# Altium schematic symbol library Reg LDO.SCHLIB: 57 symbols (part 1 of 2)
Pins are listed as number, name and electrical type; pins without a type are passive.

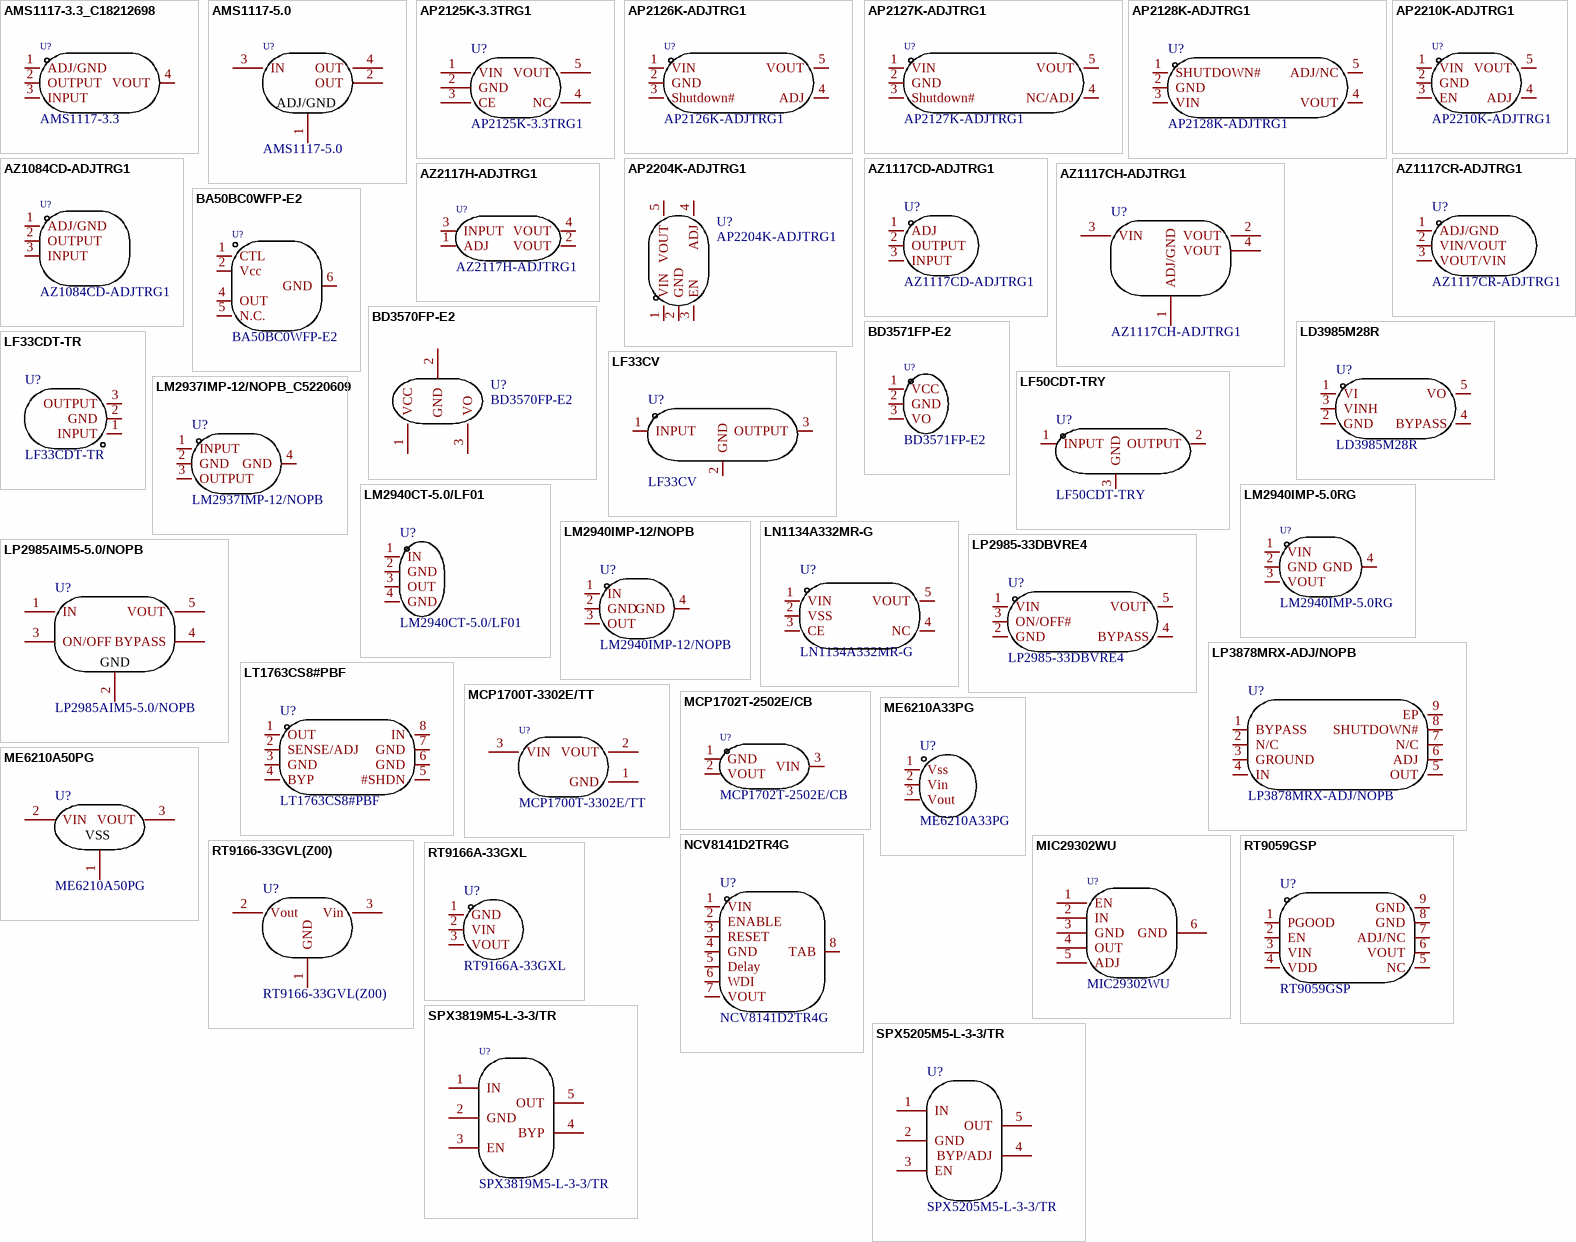
[diagram p0: symbols AMS1117-3.3_C18212698 to SPX5205M5-L-3-3/TR]

## AMS1117-3.3_C18212698
designator U?, comment AMS1117-3.3
Manufacturer: TECH PUBLIC(台舟); Symbol: AMS1117-3.3_C18212698; Add into BOM: yes; Device: AMS1117-3.3_C18212698; LCSC Part Name: AMS1117-3.3; Supplier Part: C18212698; Manufacturer Part: AMS1117-3.3; Supplier Footprint: SOT-223; Datasheet: https://atta.szlcsc.com/upload/public/pdf/source/20231024/2F46361C191D0B74404CBB3E85314756.pdf; Supplier: LCSC; Convert to PCB: yes; Name: AMS1117-3.3
footprint SOT-223-3_L6.5-W3.4-P2.30-LS7.0-BR
3D model SOT-223-4P_L6.5-W3.5-H1.6-LS7.0-P2.30
pins: 1 ADJ/GND, 2 OUTPUT, 3 INPUT, 4 VOUT

## AMS1117-5.0
designator U?
Manufacturer: 国芯佳品; Symbol: AMS1117-5.0_C2992571; Add into BOM: yes; Name: AMS1117-5.0; Device: AMS1117-5.0; LCSC Part Name: AMS1117-5.0; Supplier Part: C2992571; Manufacturer Part: AMS1117-5.0; Supplier Footprint: SOT-223-3; JLCPCB Part Class: Extended Part; Datasheet: https://atta.szlcsc.com/upload/public/pdf/source/20220729/0D21C21EC310E4778671BF6BAE438640.pdf; Supplier: LCSC; Convert to PCB: yes
footprint SOT-223-3_L6.4-W3.5-P2.30-LS7.0-BR
3D model SOT-223-3_L6.4-W3.5-P2.30-LS7.0-BR
pins: 1 ADJ/GND, 2 OUT, 3 IN, 4 OUT

## AP2125K-3.3TRG1
designator U?
Output Type: Output Polarity:Positive Number of Outputs:1 Maximum Input Voltage:6V Output Voltage:3.3V~3.3V Output Voltage:3.3V~3.3V Dropout Voltage:300mV@(300mA) Output Current:360mA Power Supply Rejection Ratio (PSRR):65dB@(100Hz,1kHz); Manufacturer: DIODES(美台); Add into BOM: yes; Number of Outputs: 1; Maximum Input Voltage: 6V; Output Current: 360mA; Name: AP2125K-3.3TRG1; Symbol: AP2125K-3.3TRG1; Device: AP2125K-3.3TRG1; LCSC Part Name: AP2125K-3.3TRG1; Supplier Part: C110463; Manufacturer Part: AP2125K-3.3TRG1; Supplier Footprint: SOT-23-5; JLCPCB Part Class: Extended Part; Datasheet: https://atta.szlcsc.com/upload/public/pdf/source/20170427/1493286382508.pdf; Supplier: LCSC; Convert to PCB: yes; Output Polarity: Positive; Output Voltage: 3.3V~3.3V; Dropout Voltage: 300mV@(300mA); Power Supply Rejection Ratio (PSRR): 65dB@(100Hz,1kHz)
footprint SOT-23-5_L3.0-W1.7-P0.95-LS2.8-BR
3D model SOT-23-5_L2.9-W1.6-H1.1-LS2.8-P0.95
pins: 1 VIN, 2 GND, 3 CE, 4 NC, 5 VOUT

## AP2126K-ADJTRG1
designator U?
Output Type: Output Polarity:Positive Number of Outputs:1 Maximum Input Voltage:6V Output Voltage:1.25V~5.5V Output Voltage:1.25V~5.5V Dropout Voltage:- Quiescent Current (Ground Current):90uA Output Current:300mA Power Supply Rejection Ratio (PSRR):68dB@; Manufacturer: DIODES(美台); Add into BOM: yes; Number of Outputs: 1; Maximum Input Voltage: 6V; Quiescent Current (Ground Current): 90uA; Output Current: 300mA; Power Supply Rejection Ratio (PSRR): 68dB@(100Hz,1kHz),54dB@(10kHz); Name: AP2126K-ADJTRG1; Symbol: AP2126K-ADJTRG1; Device: AP2126K-ADJTRG1; LCSC Part Name: ADJ 输入6V 输出1.25V~5.5V 300mA; Supplier Part: C460324; Manufacturer Part: AP2126K-ADJTRG1; Supplier Footprint: SOT-23-5; JLCPCB Part Class: Extended Part; Datasheet: https://atta.szlcsc.com/upload/public/pdf/source/20191127/C460324_56767199D18BE277FD1303F16266266F.pdf; Supplier: LCSC; Convert to PCB: yes; Output Polarity: Positive; Output Voltage: 1.25V~5.5V; Dropout Voltage: -; Operating Temperature: -40℃~+85℃
footprint SOT-23-5_L3.0-W1.7-P0.95-LS2.8-BL
3D model SOT-23-5_L2.9-W1.6-H1.1-LS2.8-P0.95
pins: 1 VIN, 2 GND, 3 Shutdown#, 4 ADJ, 5 VOUT

## AP2127K-ADJTRG1
designator U?
Output Type: Output Polarity:Positive Number of Outputs:1 Maximum Input Voltage:6V Output Voltage:0.8V~5.5V Output Voltage:0.8V~5.5V Dropout Voltage:300mV@(300mA) Quiescent Current (Ground Current):90uA Output Current:400mA Power Supply Rejection Ratio (P; Manufacturer: DIODES(美台); Add into BOM: yes; Number of Outputs: 1; Maximum Input Voltage: 6V; Quiescent Current (Ground Current): 90uA; Output Current: 400mA; Power Supply Rejection Ratio (PSRR): 68dB@(100Hz),45dB@(10kHz); Name: AP2127K-ADJTRG1; Symbol: AP2127K-ADJTRG1; Device: AP2127K-ADJTRG1; LCSC Part Name: ADJ 输入6V 输出0.8V~5.5V 400mA; Supplier Part: C96343; Manufacturer Part: AP2127K-ADJTRG1; Supplier Footprint: SOT-23-5; JLCPCB Part Class: Extended Part; Datasheet: https://atta.szlcsc.com/upload/public/pdf/source/20171221/C151376_15138312836001195553.pdf; Supplier: LCSC; Convert to PCB: yes; Output Polarity: Positive; Output Voltage: 0.8V~5.5V; Dropout Voltage: 300mV@(300mA); Operating Temperature: -40℃~+85℃
footprint SOT-23-5_L3.0-W1.7-P0.95-LS2.8-BR
3D model SOT-23-5_L2.9-W1.6-H1.1-LS2.8-P0.95
pins: 1 VIN, 2 GND, 3 Shutdown#, 4 NC/ADJ, 5 VOUT

## AP2128K-ADJTRG1
designator U?
Output Type: Output Polarity:Positive Number of Outputs:1 Maximum Input Voltage:6V Output Voltage:0.8V~5.5V Output Voltage:0.8V~5.5V Dropout Voltage:1.5V@(300mA) Output Current:300mA Power Supply Rejection Ratio (PSRR):68dB@(100Hz,1kHz),54dB@(10kHz); Manufacturer: DIODES(美台); Add into BOM: yes; Number of Outputs: 1; Maximum Input Voltage: 6V; Name: AP2128K-ADJTRG1; Symbol: AP2128K-ADJTRG1; Device: AP2128K-ADJTRG1; LCSC Part Name: 正 Vin=6V Vout=0.8V~5.5V 300mA 68dB; Supplier Part: C460332; Manufacturer Part: AP2128K-ADJTRG1; Supplier Footprint: SOT-23-5; JLCPCB Part Class: Extended Part; Datasheet: https://atta.szlcsc.com/upload/public/pdf/source/20191127/C460332_F3032CAF181CE5C37BCF2FF9F6B9B591.pdf; Supplier: LCSC; Convert to PCB: yes; Output Polarity: Positive; Output Voltage: 0.8V~5.5V; Dropout Voltage: 1.5V@(300mA); Output Current: 300mA; Power Supply Rejection Ratio (PSRR): 68dB@(100Hz,1kHz),54dB@(10kHz)
footprint SOT-23-5_L2.9-W1.6-P0.95-LS2.8-BL
3D model SOT-23-5_L2.9-W1.6-P0.95-LS2.8-BL
pins: 1 SHUTDOWN#, 2 GND, 3 VIN, 4 VOUT, 5 ADJ/NC

## AP2204K-ADJTRG1
designator U?
Output Type: Output Polarity:Positive Number of Outputs:1 Maximum Input Voltage:24V Output Voltage:1.24V~22V Output Voltage:1.24V~22V Dropout Voltage:500mV@(150mA) Output Current:150mA Power Supply Rejection Ratio (PSRR):60dB@(100Hz,1kHz); Manufacturer: DIODES(美台); Add into BOM: yes; Number of Outputs: 1; Maximum Input Voltage: 24V; Name: AP2204K-ADJTRG1; Symbol: AP2204K-ADJTRG1; Device: AP2204K-ADJTRG1; LCSC Part Name: ADJ 输入24V 输出1.24V~22V 150mA; Supplier Part: C264072; Manufacturer Part: AP2204K-ADJTRG1; Supplier Footprint: SOT-23-5; JLCPCB Part Class: Extended Part; Datasheet: https://atta.szlcsc.com/upload/public/pdf/source/20180822/C264072_EFC7A571A9E1AB058274A781B1FE9390.pdf; Supplier: LCSC; Convert to PCB: yes; Output Polarity: Positive; Output Voltage: 1.24V~22V; Dropout Voltage: 500mV@(150mA); Output Current: 150mA; Power Supply Rejection Ratio (PSRR): 60dB@(100Hz,1kHz)
footprint SOT-23-5_L3.0-W1.7-P0.95-LS2.8-BR
3D model SOT-23-5_L2.9-W1.6-H1.1-LS2.8-P0.95
pins: 1 VIN, 2 GND, 3 EN, 4 ADJ, 5 VOUT

## AP2210K-ADJTRG1
designator U?
Output Type:可调 Output Polarity:正 Number of Outputs:1 Maximum Input Voltage:13.2V Output Voltage:1.25V~12.7V Output Voltage:1.25V~12.7V Dropout Voltage:0.5V@(300mA) Quiescent Current (Ground Current):180uA Output Current:300mA Power Supply Rejection Ratio; Manufacturer: DIODES(美台); Add into BOM: yes; Output Type: 可调; Output Polarity: 正; Number of Outputs: 1; Maximum Input Voltage: 13.2V; Quiescent Current (Ground Current): 180uA; Power Supply Rejection Ratio (PSRR): 75dB@(100Hz); Name: AP2210K-ADJTRG1; Symbol: AP2210K-ADJTRG1; Device: AP2210K-ADJTRG1; LCSC Part Name: AP2210K-ADJTRG1; Supplier Part: C507874; Manufacturer Part: AP2210K-ADJTRG1; Supplier Footprint: SOT-23-5; JLCPCB Part Class: Extended Part; Datasheet: https://atta.szlcsc.com/upload/public/pdf/source/20191127/C460341_CF25CCA109B05FF71BEEAE7A7BF43895.pdf; Supplier: LCSC; Convert to PCB: yes; Output Voltage: 1.25V~12.7V; Dropout Voltage: 0.5V@(300mA); Output Current: 300mA; Operating Temperature: -40℃~+125℃
footprint SOT-23-5_L2.9-W1.6-P0.95-LS2.8-BR
3D model SOT-23-5_L2.9-W1.6-P0.95-LS2.8-BR
pins: 1 VIN, 2 GND, 3 EN, 4 ADJ, 5 VOUT

## AZ1084CD-ADJTRG1
designator U?
Output Type: Output Polarity:Positive Number of Outputs:1 Maximum Input Voltage:12V Output Voltage:1.25V~10.5V Output Voltage:1.25V~10.5V Dropout Voltage:1.5V@(4.5A) Quiescent Current (Ground Current):10mA Output Current:5A Power Supply Rejection Ratio (P; Manufacturer: DIODES(美台); Add into BOM: yes; Number of Outputs: 1; Maximum Input Voltage: 12V; Quiescent Current (Ground Current): 10mA; Output Current: 5A; Power Supply Rejection Ratio (PSRR): 72dB@(120Hz); Name: AZ1084CD-ADJTRG1; Symbol: AZ1084CD-ADJTRG1; Device: AZ1084CD-ADJTRG1; LCSC Part Name: ADJ 输入12V 输出1.25V~10.5V 5A; Supplier Part: C150458; Manufacturer Part: AZ1084CD-ADJTRG1; Supplier Footprint: TO-252; JLCPCB Part Class: Extended Part; Datasheet: https://atta.szlcsc.com/upload/public/pdf/source/20171221/C151391_15138312907591195568.pdf; Supplier: LCSC; Convert to PCB: yes; Output Polarity: Positive; Output Voltage: 1.25V~10.5V; Dropout Voltage: 1.5V@(4.5A); Operating Temperature: 0℃~+125℃
footprint TO-252-2_L6.6-W6.1-P4.57-LS9.9-TL-CW
3D model TO-252-2L-3P_L6.6-W6.1-H2.3-LS10.1-P4.6
pins: 1 ADJ/GND, 2 OUTPUT, 3 INPUT

## AZ1117CD-ADJTRG1
designator U?
Output Type:-; Manufacturer: DIODES(美台); Add into BOM: yes; Name: AZ1117CD-ADJTRG1; Symbol: AZ1117CD-ADJTRG1; Device: AZ1117CD-ADJTRG1; LCSC Part Name: AZ1117CD-ADJTRG1; Supplier Part: C177005; Manufacturer Part: AZ1117CD-ADJTRG1; Supplier Footprint: TO-252-2; JLCPCB Part Class: Extended Part; Datasheet: https://atta.szlcsc.com/upload/public/pdf/source/20200113/C481691_4CA85A195C85BD5111869557270CCBB7.pdf; Supplier: LCSC; Convert to PCB: yes; Output Type: -
footprint TO-252-2_L6.6-W6.1-P4.57-LS9.9-BR-CW
3D model TO-252-2L-3P_L6.6-W6.1-H2.3-LS10.1-P4.6
pins: 1 ADJ, 2 OUTPUT, 3 INPUT

## AZ1117CH-ADJTRG1
designator U?
Output Type: Output Polarity:Positive Number of Outputs:1 Maximum Input Voltage:15V Output Voltage:1.25V~13.7V Output Voltage:1.25V~13.7V Dropout Voltage:1.3V@(800mA) Output Current:800mA Power Supply Rejection Ratio (PSRR):70dB@(120Hz); Manufacturer: DIODES(美台); Add into BOM: yes; Number of Outputs: 1; Maximum Input Voltage: 15V; Name: AZ1117CH-ADJTRG1; Symbol: AZ1117CH-ADJTRG1; Device: AZ1117CH-ADJTRG1; LCSC Part Name: AZ1117CH-ADJTRG1; Supplier Part: C95398; Manufacturer Part: AZ1117CH-ADJTRG1; Supplier Footprint: SOT-223; JLCPCB Part Class: Extended Part; Datasheet: https://atta.szlcsc.com/upload/public/pdf/source/20170427/1493286424573.pdf; Supplier: LCSC; Convert to PCB: yes; Output Polarity: Positive; Output Voltage: 1.25V~13.7V; Dropout Voltage: 1.3V@(800mA); Output Current: 800mA; Power Supply Rejection Ratio (PSRR): 70dB@(120Hz)
footprint SOT-223-3_L6.5-W3.4-P2.30-LS7.0-BR
3D model SOT-223-4P_L6.5-W3.5-H1.6-LS7.0-P2.30
pins: 1 ADJ/GND, 2 VOUT, 3 VIN, 4 VOUT

## AZ1117CR-ADJTRG1
designator U?
Output Type: Output Polarity:Positive Number of Outputs:1 Maximum Input Voltage:15V Output Voltage:1.25V~15V Output Voltage:1.25V~15V Dropout Voltage:- Output Current:1A Power Supply Rejection Ratio (PSRR):70dB@(120Hz); Manufacturer: DIODES(美台); Add into BOM: yes; Number of Outputs: 1; Maximum Input Voltage: 15V; Output Current: 1A; Name: AZ1117CR-ADJTRG1; Symbol: AZ1117CR-ADJTRG1; Device: AZ1117CR-ADJTRG1; LCSC Part Name: AZ1117CR-ADJTRG1; Supplier Part: C481691; Manufacturer Part: AZ1117CR-ADJTRG1; Supplier Footprint: SOT-89-3L; JLCPCB Part Class: Extended Part; Datasheet: https://atta.szlcsc.com/upload/public/pdf/source/20200113/C481691_4CA85A195C85BD5111869557270CCBB7.pdf; Supplier: LCSC; Convert to PCB: yes; Output Polarity: Positive; Output Voltage: 1.25V~15V; Dropout Voltage: -; Power Supply Rejection Ratio (PSRR): 70dB@(120Hz)
footprint SOT-89-3L_L4.5-W2.5-P1.50-LS4.1-BR
3D model SOT-89-3L_L4.5-W2.5-P1.50-LS4.1-BR
pins: 1 ADJ/GND, 2 VIN/VOUT, 3 VOUT/VIN

## AZ2117H-ADJTRG1
designator U?
Output Type:可调 Output Polarity:正 Number of Outputs:1 Maximum Input Voltage:15V Dropout Voltage:1.5V@(1A) Output Current:1.5A Power Supply Rejection Ratio (PSRR):60dB@(1kHz) Operating Temperature:-40℃~+125℃@(Tj) Operating Temperature:-40℃~+125℃@(Tj); Manufacturer: DIODES(美台); Add into BOM: yes; Output Type: 可调; Output Polarity: 正; Number of Outputs: 1; Maximum Input Voltage: 15V; Output Current: 1.5A; Name: AZ2117H-ADJTRG1; Symbol: AZ2117H-ADJTRG1; Device: AZ2117H-ADJTRG1; LCSC Part Name: AZ2117H-ADJTRG1; Supplier Part: C2960364; Manufacturer Part: AZ2117H-ADJTRG1; Supplier Footprint: TO-261-4; Datasheet: https://atta.szlcsc.com/upload/public/pdf/source/20221028/8BAC78F6EA50E5ECF58642D9646821A6.pdf; Supplier: LCSC; Convert to PCB: yes; Dropout Voltage: 1.5V@(1A); Power Supply Rejection Ratio (PSRR): 60dB@(1kHz); Operating Temperature: -40℃~+125℃@(Tj); link: https://atta.szlcsc.com/upload/public/pdf/source/20221028/8BAC78F6EA50E5ECF58642D9646821A6.pdf
footprint SOT-223-3_L6.7-W3.7-P2.30-LS7.0-BR
3D model SOT-223-3_L6.7-W3.7-P2.30-LS7.0-BR
pins: 1 ADJ, 2 VOUT, 3 INPUT, 4 VOUT

## BA50BC0WFP-E2
designator U?
Output Type:固定 Output Polarity:正 Number of Outputs:1 Maximum Input Voltage:16V Output Voltage:5V Output Voltage:5V Quiescent Current (Ground Current):0.5mA Output Current:1A Power Supply Rejection Ratio (PSRR):55dB@(120Hz) Operating Temperature:-40℃~+105℃; Manufacturer: ROHM(罗姆); Add into BOM: yes; Output Type: 固定; Output Polarity: 正; Number of Outputs: 1; Maximum Input Voltage: 16V; Output Voltage: 5V; Quiescent Current (Ground Current): 0.5mA; Output Current: 1A; Name: BA50BC0WFP-E2; Symbol: BA50BC0WFP-E2; Device: BA50BC0WFP-E2; LCSC Part Name: BA50BC0WFP-E2; Supplier Part: C5178527; Manufacturer Part: BA50BC0WFP-E2; Supplier Footprint: TO-252-5; Datasheet: https://atta.szlcsc.com/upload/public/pdf/source/20220923/07A3E336AEFB193F2C1D419187BFB116.pdf; Supplier: LCSC; Convert to PCB: yes; Power Supply Rejection Ratio (PSRR): 55dB@(120Hz); Operating Temperature: -40℃~+105℃; link: https://atta.szlcsc.com/upload/public/pdf/source/20220923/07A3E336AEFB193F2C1D419187BFB116.pdf
footprint TO-252-5_L6.5-W5.5-P1.30-LS10.0-BR
3D model TO-252-5-4P_L6.5-W6.2-H2.3-LS10.0-P1.14
pins: 1 CTL, 2 Vcc, 4 OUT, 5 N.C., 6 GND

## BD3570FP-E2
designator U?
Output Type: Output Polarity:Positive Number of Outputs:1 Maximum Input Voltage:36V Output Voltage:3.3V~3.3V Output Voltage:3.3V~3.3V Dropout Voltage:- Output Current:500mA Power Supply Rejection Ratio (PSRR):55dB@(120Hz); Manufacturer: ROHM(罗姆); Add into BOM: yes; Number of Outputs: 1; Maximum Input Voltage: 36V; Output Current: 500mA; Name: BD3570FP-E2; Symbol: BD3570FP-E2; Device: BD3570FP-E2; LCSC Part Name: BD3570FP-E2; Supplier Part: C79634; Manufacturer Part: BD3570FP-E2; Supplier Footprint: TO-252-2(DPAK); JLCPCB Part Class: Extended Part; Datasheet: https://atta.szlcsc.com/upload/public/pdf/source/20160729/1469779572164.pdf; Supplier: LCSC; Convert to PCB: yes; Output Polarity: Positive; Output Voltage: 3.3V~3.3V; Dropout Voltage: -; Power Supply Rejection Ratio (PSRR): 55dB@(120Hz)
footprint TO-252-2_L6.6-W6.1-P4.57-LS9.9-BR-CW
3D model TO-252-2L-3P_L6.6-W6.1-H2.3-LS10.1-P4.6
pins: 1 VCC, 2 GND, 3 VO

## BD3571FP-E2
designator U?
Output Type: Output Polarity:Positive Number of Outputs:1 Maximum Input Voltage:36V Output Voltage:5V Output Voltage:5V Dropout Voltage:480mV@(200mA) Quiescent Current (Ground Current):30uA Output Current:500mA Power Supply Rejection Ratio (PSRR):55dB@(12; Manufacturer: ROHM(罗姆); Add into BOM: yes; Number of Outputs: 1; Maximum Input Voltage: 36V; Output Voltage: 5V; Quiescent Current (Ground Current): 30uA; Output Current: 500mA; Power Supply Rejection Ratio (PSRR): 55dB@(120Hz); Name: BD3571FP-E2; Symbol: BD3571FP-E2; Device: BD3571FP-E2; LCSC Part Name: 输入36V 输出5V 500mA; Supplier Part: C442614; Manufacturer Part: BD3571FP-E2; Supplier Footprint: TO-252; JLCPCB Part Class: Extended Part; Datasheet: https://atta.szlcsc.com/upload/public/pdf/source/20160729/1469779572164.pdf; Supplier: LCSC; Convert to PCB: yes; Output Polarity: Positive; Dropout Voltage: 480mV@(200mA); Operating Temperature: -40℃~+125℃
footprint TO-252-3_L6.5-W5.8-P4.58-BR
3D model TO-252-3_L6.5-W6.1-H2.3-LS10.0-P4.58
pins: 1 VCC, 2 GND, 3 VO

## LD3985M28R
designator U?
Manufacturer: ST(意法半导体); Add into BOM: yes; Name: LD3985M28R; Symbol: LD3985M28R; Device: LD3985M28R; LCSC Part Name: LD3985M28R; Supplier Part: C5267951; Manufacturer Part: LD3985M28R; Supplier Footprint: SOT-23-5; Supplier: LCSC; Convert to PCB: yes
footprint SOT-23-5_L3.0-W1.6-P0.95-LS2.8-BR
3D model SOT-23-5_L3.0-W1.6-P0.95-LS2.8-BR
pins: 1 VI, 2 GND, 3 VINH, 4 BYPASS, 5 VO

## LF33CDT-TR
designator U?
Output Type: Output Polarity:Positive Number of Outputs:1 Maximum Input Voltage:16V Output Voltage:3.3V~3.3V Output Voltage:3.3V~3.3V Dropout Voltage:700mV@(500mA) Output Current:500mA Power Supply Rejection Ratio (PSRR):80dB@(120Hz),65dB@(10kHz); Manufacturer: ST(意法半导体); Add into BOM: yes; Number of Outputs: 1; Maximum Input Voltage: 16V; Name: LF33CDT-TR; Symbol: LF33CDT-TR; Device: LF33CDT-TR; LCSC Part Name: 输入16V 输出3.3V 500mA; Supplier Part: C222179; Manufacturer Part: LF33CDT-TR; Supplier Footprint: TO-252-2(DPAK); JLCPCB Part Class: Extended Part; Datasheet: https://atta.szlcsc.com/upload/public/pdf/source/20180517/C222179_968CB5F70D94A634C9FBB717B401E16B.pdf; Supplier: LCSC; Convert to PCB: yes; Output Polarity: Positive; Output Voltage: 3.3V~3.3V; Dropout Voltage: 700mV@(500mA); Output Current: 500mA; Power Supply Rejection Ratio (PSRR): 80dB@(120Hz),65dB@(10kHz)
footprint TO-252-2_L6.6-W6.1-P4.57-LS9.9-BR-CW
3D model TO-252-2L-3P_L6.6-W6.1-H2.3-LS10.1-P4.6
pins: 1 INPUT, 2 GND, 3 OUTPUT

## LF33CV
designator U?
Output Type:固定 Output Polarity:正 Number of Outputs:1 Maximum Input Voltage:16V Output Voltage:12V~12V Output Voltage:12V~12V Dropout Voltage:0.7V@(500mA) Quiescent Current (Ground Current):1mA Output Current:500mA Operating Temperature:-40℃~+125℃ Operatin; Manufacturer: ST(意法半导体); Add into BOM: yes; Output Type: 固定; Output Polarity: 正; Number of Outputs: 1; Maximum Input Voltage: 16V; Quiescent Current (Ground Current): 1mA; Name: LF33CV; Symbol: LF33CV; Device: LF33CV; LCSC Part Name: LF33CV; Supplier Part: C2832779; Manufacturer Part: LF33CV; Supplier Footprint: TO-220-3; Datasheet: https://atta.szlcsc.com/upload/public/pdf/source/20191009/C435902_65B3AAB3204119845CFC8A7586266A6B.pdf; Supplier: LCSC; Convert to PCB: yes; Output Voltage: 12V~12V; Dropout Voltage: 0.7V@(500mA); Output Current: 500mA; Operating Temperature: -40℃~+125℃
footprint TO-220-3_L10.2-W4.5-P2.54-L
3D model TO-220-3_L10.2-W4.5-P2.54-L
pins: 1 INPUT, 2 GND, 3 OUTPUT

## LF50CDT-TRY
designator U?
Output Type:固定 Output Polarity:正 Number of Outputs:1 Maximum Input Voltage:16V Output Voltage:5V Output Voltage:5V Dropout Voltage:1.3V@(500mA) Quiescent Current (Ground Current):2mA Output Current:500mA Operating Temperature:-40℃~+125℃ Operating Temperat; Manufacturer: ST(意法半导体); Add into BOM: yes; Output Type: 固定; Output Polarity: 正; Number of Outputs: 1; Maximum Input Voltage: 16V; Output Voltage: 5V; Quiescent Current (Ground Current): 2mA; Name: LF50CDT-TRY; Symbol: LF50CDT-TRY; Device: LF50CDT-TRY; LCSC Part Name: LF50CDT-TRY; Supplier Part: C2971144; Manufacturer Part: LF50CDT-TRY; Supplier Footprint: TO-252; Datasheet: https://atta.szlcsc.com/upload/public/pdf/source/20191009/C435902_65B3AAB3204119845CFC8A7586266A6B.pdf; Supplier: LCSC; Convert to PCB: yes; Dropout Voltage: 1.3V@(500mA); Output Current: 500mA; Operating Temperature: -40℃~+125℃
footprint TO-252-3_L6.6-W6.1-P4.56-LS9.9-TL
3D model TO-252-3_L6.6-W6.1-P4.56-LS9.9-TL
pins: 1 INPUT, 2 OUTPUT, 3 GND

## LM2937IMP-12/NOPB_C5220609
designator U?, comment LM2937IMP-12/NOPB
Output Type: Output Polarity:正 Number of Outputs:1 Maximum Input Voltage:26V Output Voltage:12V Output Voltage:12V Dropout Voltage:500mV Quiescent Current (Ground Current):2mA Output Current:0.5A Power Supply Rejection Ratio (PSRR):57dB@(100kHz) Noise:150; Manufacturer: TI(德州仪器); Symbol: LM2937IMP-12/NOPB_C5220609; Add into BOM: yes; Output Polarity: 正; Number of Outputs: 1; Maximum Input Voltage: 26V; Output Voltage: 12V; Dropout Voltage: 500mV; Quiescent Current (Ground Current): 2mA; Output Current: 0.5A; Noise: 150uVrms; Name: LM2937IMP-12/NOPB; Device: LM2937IMP-12/NOPB_C5220609; LCSC Part Name: 输入26V 输出5V~15V 0.5A; Supplier Part: C5220609; Manufacturer Part: LM2937IMP-12/NOPB; Supplier Footprint: SOT-223-4; JLCPCB Part Class: Extended Part; Datasheet: https://www.ti.com/cn/lit/gpn/lm2937; Supplier: LCSC; Convert to PCB: yes; Power Supply Rejection Ratio (PSRR): 57dB@(100kHz); Feature: -; Operating Temperature: -40℃~+85℃
footprint SOT-223-4_L6.5-W3.5-P2.30-LS7.0-BR
3D model SOT-223-4P_L6.5-W3.5-H1.6-LS7.0-P2.30
pins: 1 INPUT, 2 GND, 3 OUTPUT, 4 GND

## LM2940CT-5.0/LF01
designator U?
Manufacturer: TI(德州仪器); Add into BOM: yes; Name: LM2940CT-5.0/LF01; Symbol: LM2940CT-5.0/LF01; Device: LM2940CT-5.0/LF01; LCSC Part Name: LM2940CT-5.0/LF01; Supplier Part: C2866631; Manufacturer Part: LM2940CT-5.0/LF01; Supplier Footprint: TO-220; JLCPCB Part Class: Extended Part; Datasheet: https://atta.szlcsc.com/upload/public/pdf/source/20230221/4B169323BAF460E6951AD52F46BCB2F6.pdf; Supplier: LCSC; Convert to PCB: yes
footprint TO-220-3_L16.2-W10.2-P2.54-TL_TI_NDG
3D model TO-220-3_L16.2-W10.2-P2.54-TL_TI_NDG
pins: 1 IN, 2 GND, 3 OUT, 4 GND

## LM2940IMP-5.0RG
designator U?
Manufacturer: HGC(深圳汉芯); Add into BOM: yes; Name: LM2940IMP-5.0RG; Symbol: LM2940IMP-5.0RG; Device: LM2940IMP-5.0RG; LCSC Part Name: LM2940IMP-5.0RG; Supplier Part: C5145300; Manufacturer Part: LM2940IMP-5.0RG; Supplier Footprint: SOT-223; Datasheet: https://atta.szlcsc.com/upload/public/pdf/source/20230410/C7BD4CEE63E292837B75FC9C2A710A86.pdf; Supplier: LCSC; Convert to PCB: yes; link: https://atta.szlcsc.com/upload/public/pdf/source/20230410/C7BD4CEE63E292837B75FC9C2A710A86.pdf
footprint SOT-223-4_L6.5-W3.5-P2.30-LS7.0-BR
3D model SOT-223-4P_L6.5-W3.5-H1.6-LS7.0-P2.30
pins: 1 VIN, 2 GND, 3 VOUT, 4 GND

## LM2940IMP-12/NOPB
designator U?
Manufacturer: TI(德州仪器); Add into BOM: yes; Name: LM2940IMP-12/NOPB; Symbol: LM2940IMP-12/NOPB; Device: LM2940IMP-12/NOPB; LCSC Part Name: LM2940IMP-12/NOPB; Supplier Part: C86562; Manufacturer Part: LM2940IMP-12/NOPB; Supplier Footprint: SOT-223-4; JLCPCB Part Class: Extended Part; Datasheet: https://atta.szlcsc.com/upload/public/pdf/source/20181012/C86562_C13BD1C5565BF5BF0D91488D5322B6E8.pdf; Supplier: LCSC; Convert to PCB: yes
footprint SOT-223-4_L6.5-W3.5-P2.30-LS7.0-BR
3D model SOT-223-4P_L6.5-W3.5-H1.6-LS7.0-P2.30
pins: 1 IN, 2 GND, 3 OUT, 4 GND

## LN1134A332MR-G
designator U?
Output Type: Output Polarity:Positive Number of Outputs:1 Maximum Input Voltage:7V Output Voltage:3.3V~3.3V Output Voltage:3.3V~3.3V Dropout Voltage:450mV@(100mA) Output Current:300mA Power Supply Rejection Ratio (PSRR):70dB@(10kHz); Manufacturer: natlinear(南麟); Add into BOM: yes; Number of Outputs: 1; Maximum Input Voltage: 7V; Output Current: 300mA; Name: LN1134A332MR-G; Symbol: LN1134A332MR-G; Device: LN1134A332MR-G; LCSC Part Name: LN1134A332MR-G; Supplier Part: C141419; Manufacturer Part: LN1134A332MR-G; Supplier Footprint: SOT-23-5; JLCPCB Part Class: Extended Part; Datasheet: https://atta.szlcsc.com/upload/public/pdf/source/20171110/C141419_15102792351811104212.pdf; Supplier: LCSC; Convert to PCB: yes; Output Polarity: Positive; Output Voltage: 3.3V~3.3V; Dropout Voltage: 450mV@(100mA); Power Supply Rejection Ratio (PSRR): 70dB@(10kHz)
footprint SOT-23-5_L3.0-W1.7-P0.95-LS2.8-BR
3D model SOT-23-5_L2.9-W1.6-H1.1-LS2.8-P0.95
pins: 1 VIN, 2 VSS, 3 CE, 4 NC, 5 VOUT

## LP2985-33DBVRE4
designator U?
Output Type: Output Polarity:Positive Number of Outputs:1 Maximum Input Voltage:16V Output Voltage:3.3V~3.3V Output Voltage:3.3V~3.3V Dropout Voltage:0.58V@(150mA) Quiescent Current (Ground Current):95uA Output Current:150mA Power Supply Rejection Ratio (; Manufacturer: TI(德州仪器); Add into BOM: yes; Number of Outputs: 1; Maximum Input Voltage: 16V; Quiescent Current (Ground Current): 95uA; Power Supply Rejection Ratio (PSRR): 45dB@(1kHz); Name: LP2985-33DBVRE4; Symbol: LP2985-33DBVRE4; Device: LP2985-33DBVRE4; LCSC Part Name: 输入16V 输出3.3V 150mA; Supplier Part: C3749533; Manufacturer Part: LP2985-33DBVRE4; Supplier Footprint: SOT-23-5; Datasheet: https://www.ti.com/cn/lit/gpn/lp2985; Supplier: LCSC; Convert to PCB: yes; Output Polarity: Positive; Output Voltage: 3.3V~3.3V; Dropout Voltage: 0.58V@(150mA); Output Current: 150mA; Feature: Overcurrent Protection；过热保护; Operating Temperature: -40℃~+125℃
footprint SOT-23-5_L3.0-W1.6-P0.95-LS2.8-BR
3D model SOT-23-5_L3.0-W1.6-P0.95-LS2.8-BR
pins: 1 VIN, 2 GND, 3 ON/OFF#, 4 BYPASS, 5 VOUT

## LP2985AIM5-5.0/NOPB
designator U?
Output Type: Output Polarity:Positive Number of Outputs:1 Maximum Input Voltage:16V Output Voltage:5V~5V Output Voltage:5V~5V Dropout Voltage:575mV@(150mA) Output Current:150mA Power Supply Rejection Ratio (PSRR):45dB@(1kHz); Manufacturer: TI(德州仪器); Add into BOM: yes; Number of Outputs: 1; Maximum Input Voltage: 16V; Output Voltage: 5V~5V; Name: LP2985AIM5-5.0/NOPB; Symbol: LP2985AIM5-5.0/NOPB; Device: LP2985AIM5-5.0/NOPB; LCSC Part Name: LP2985AIM5-5.0/NOPB; Supplier Part: C130188; Manufacturer Part: LP2985AIM5-5.0/NOPB; Supplier Footprint: SOT-23-5; JLCPCB Part Class: Extended Part; Datasheet: https://atta.szlcsc.com/upload/public/pdf/source/20170918/C130188_1505703344976975192.pdf; Supplier: LCSC; Convert to PCB: yes; Output Polarity: Positive; Dropout Voltage: 575mV@(150mA); Output Current: 150mA; Power Supply Rejection Ratio (PSRR): 45dB@(1kHz)
footprint SOT-23-5_L3.0-W1.7-P0.95-LS2.8-BR
3D model SOT-23-5_L2.9-W1.6-H1.1-LS2.8-P0.95
pins: 1 IN, 2 GND, 3 ON/OFF, 4 BYPASS, 5 VOUT

## LP3878MRX-ADJ/NOPB
designator U?
Output Type: Output Polarity:Positive Number of Outputs:1 Maximum Input Voltage:16V Output Voltage:1V~5.5V Output Voltage:1V~5.5V Dropout Voltage:1.1V@(800mA) Quiescent Current (Ground Current):1.5mA Output Current:800mA Power Supply Rejection Ratio (PSRR; Manufacturer: TI(德州仪器); Add into BOM: yes; Number of Outputs: 1; Maximum Input Voltage: 16V; Quiescent Current (Ground Current): 1.5mA; Power Supply Rejection Ratio (PSRR): 60dB@(1kHz); Name: LP3878MRX-ADJ/NOPB; Symbol: LP3878MRX-ADJ/NOPB; Device: LP3878MRX-ADJ/NOPB; LCSC Part Name: ADJ 输入16V 输出1V~5.5V 800mA; Supplier Part: C411875; Manufacturer Part: LP3878MRX-ADJ/NOPB; Supplier Footprint: SO-8; JLCPCB Part Class: Extended Part; Datasheet: https://atta.szlcsc.com/upload/public/pdf/source/20190816/C411875_D4EB0F4B36404E36E30F9C6FF0524EB0.pdf; Supplier: LCSC; Convert to PCB: yes; Output Polarity: Positive; Output Voltage: 1V~5.5V; Dropout Voltage: 1.1V@(800mA); Output Current: 800mA; Operating Temperature: -40℃~+125℃
footprint SOPOWERPAD-8_L4.9-W3.9-P1.27-LS6.0-BL-EP
3D model SOPOWERPAD-8_L4.9-W3.9-H1.7-LS6.0-P1.27
pins: 1 BYPASS, 2 N/C, 3 GROUND, 4 IN, 5 OUT, 6 ADJ, 7 N/C, 8 SHUTDOWN#, 9 EP

## LT1763CS8#PBF
designator U?
Output Type: Output Polarity:Positive Number of Outputs:1 Maximum Input Voltage:20V Output Voltage:1.22V~20V Output Voltage:1.22V~20V Dropout Voltage:450mV@(500mA) Output Current:500mA Power Supply Rejection Ratio (PSRR):65dB@(120Hz); Manufacturer: ADI(亚德诺)/LINEAR(凌特); Add into BOM: yes; Number of Outputs: 1; Maximum Input Voltage: 20V; Name: LT1763CS8#PBF; Symbol: LT1763CS8#PBF; Device: LT1763CS8#PBF; LCSC Part Name: 正 Vin=20V Vout=1.22V~20V 500mA 65dB@(120Hz); Supplier Part: C193629; Manufacturer Part: LT1763CS8#PBF; Supplier Footprint: SOIC-8; JLCPCB Part Class: Extended Part; Datasheet: https://atta.szlcsc.com/upload/public/pdf/source/20180628/C193629_C83111742BBE08A89EC506417E373204.pdf; Supplier: LCSC; Convert to PCB: yes; Output Polarity: Positive; Output Voltage: 1.22V~20V; Dropout Voltage: 450mV@(500mA); Output Current: 500mA; Power Supply Rejection Ratio (PSRR): 65dB@(120Hz)
footprint SOIC-8_L5.0-W4.0-P1.27-LS6.0-BL
3D model SOIC-8_L4.9-W3.9-H1.7-LS6.0-P1.27
pins: 1 OUT, 2 SENSE/ADJ, 3 GND, 4 BYP, 5 #SHDN, 6 GND, 7 GND, 8 IN

## MCP1700T-3302E/TT
designator U?
Output Type: Output Polarity:Positive Number of Outputs:1 Maximum Input Voltage:6V Output Voltage:3.3V Output Voltage:3.3V Dropout Voltage:350mV@(250mA) Quiescent Current (Ground Current):4uA Output Current:250mA Power Supply Rejection Ratio (PSRR):44dB@(; Manufacturer: MICROCHIP(美国微芯); Add into BOM: yes; Number of Outputs: 1; Maximum Input Voltage: 6V; Output Voltage: 3.3V; Quiescent Current (Ground Current): 4uA; Power Supply Rejection Ratio (PSRR): 44dB@(100Hz); Name: MCP1700T-3302E/TT; Symbol: MCP1700T-3302E/TT; Device: MCP1700T-3302E/TT; LCSC Part Name: 输入6V 输出3.3V 250mA; Supplier Part: C39051; Manufacturer Part: MCP1700T-3302E/TT; Supplier Footprint: SOT-23(TO-236); JLCPCB Part Class: Extended Part; Datasheet: https://atta.szlcsc.com/upload/public/pdf/source/20151106/1457707552452.pdf; Supplier: LCSC; Convert to PCB: yes; Output Polarity: Positive; Dropout Voltage: 350mV@(250mA); Output Current: 250mA; Operating Temperature: -40℃~+125℃
footprint SOT-23-3_L2.9-W1.6-P1.90-LS2.8-BR
3D model SOT-23-3L_L2.9-W1.6-H1.1-LS2.8-P0.95
pins: 1 GND, 2 VOUT, 3 VIN

## MCP1702T-2502E/CB
designator U?
Manufacturer: MICROCHIP(美国微芯); Add into BOM: yes; Name: MCP1702T-2502E/CB; Symbol: MCP1702T-2502E/CB; Device: MCP1702T-2502E/CB; LCSC Part Name: MCP1702T-2502E/CB; Supplier Part: C625364; Manufacturer Part: MCP1702T-2502E/CB; Supplier Footprint: SOT-23A-3; JLCPCB Part Class: Extended Part; Datasheet: https://atta.szlcsc.com/upload/public/pdf/source/20140723/1457707156603.pdf; Supplier: LCSC; Convert to PCB: yes
footprint SOT-23-3_L2.9-W1.6-P1.90-LS2.8-BR
3D model SOT-23-3L_L2.9-W1.6-H1.1-LS2.8-P0.95
pins: 1 GND, 2 VOUT, 3 VIN

## ME6210A33PG
designator U?
Output Type: Output Polarity:Positive Number of Outputs:1 Maximum Input Voltage:18V Output Voltage:3.3V~3.3V Output Voltage:3.3V~3.3V Dropout Voltage:260mV@(200mA) Output Current:500mA Power Supply Rejection Ratio (PSRR):-; Manufacturer: MICRONE(南京微盟); Add into BOM: yes; Number of Outputs: 1; Maximum Input Voltage: 18V; Output Current: 500mA; Name: ME6210A33PG; Symbol: ME6210A33PG; Device: ME6210A33PG; LCSC Part Name: ME6210A33PG; Supplier Part: C85233; Manufacturer Part: ME6210A33PG; Supplier Footprint: SOT-89; JLCPCB Part Class: Extended Part; Datasheet: https://atta.szlcsc.com/upload/public/pdf/source/20161114/1479092088900.pdf; Supplier: LCSC; Convert to PCB: yes; Output Polarity: Positive; Output Voltage: 3.3V~3.3V; Dropout Voltage: 260mV@(200mA); Power Supply Rejection Ratio (PSRR): -
footprint SOT-89_L4.5-W2.5-P1.50-LS4.2-BR
3D model SOT-89-3_L4.3-W2.5-H1.6-LS4.1-P1.50
pins: 1 Vss, 2 Vin, 3 Vout

## ME6210A50PG
designator U?
Output Type: Output Polarity:Positive Number of Outputs:1 Maximum Input Voltage:18V Output Voltage:5V~5V Output Voltage:5V~5V Dropout Voltage:220mV@(200mA) Output Current:500mA Power Supply Rejection Ratio (PSRR):-; Manufacturer: MICRONE(南京微盟); Add into BOM: yes; Number of Outputs: 1; Maximum Input Voltage: 18V; Output Voltage: 5V~5V; Output Current: 500mA; Name: ME6210A50PG; Symbol: ME6210A50PG; Device: ME6210A50PG; LCSC Part Name: ME6210A50PG; Supplier Part: C82940; Manufacturer Part: ME6210A50PG; Supplier Footprint: SOT-89-3; JLCPCB Part Class: Extended Part; Datasheet: https://atta.szlcsc.com/upload/public/pdf/source/20160920/1474356681202.pdf; Supplier: LCSC; Convert to PCB: yes; Output Polarity: Positive; Dropout Voltage: 220mV@(200mA); Power Supply Rejection Ratio (PSRR): -
footprint SOT-89-3_L4.5-W2.5-P1.50-LS4.2-BR
3D model SOT-89-3_L4.3-W2.5-H1.6-LS4.1-P1.50
pins: 1 VSS, 2 VIN, 3 VOUT

## MIC29302WU
designator U?
Manufacturer: UMW(友台半导体); Symbol: MIC29302WU_C2995533; Add into BOM: yes; Name: MIC29302WU; Device: MIC29302WU; LCSC Part Name: 3A Fast-Response LDO Regulator; Supplier Part: C2995533; Manufacturer Part: MIC29302WU; Supplier Footprint: TO-263-5; JLCPCB Part Class: Extended Part; Datasheet: https://atta.szlcsc.com/upload/public/pdf/source/20231109/E0258E4D8C84FF766A4F09367F35EB52.pdf; Supplier: LCSC; Convert to PCB: yes
footprint TO-263-5_L10.1-W8.7-P1.70-LS15.2-BR
3D model TO-263-5_L10.1-W8.7-P1.70-LS15.2-BR
pins: 1 EN, 2 IN, 3 GND, 4 OUT, 5 ADJ, 6 GND

## NCV8141D2TR4G
designator U?
Output Type: Output Polarity:Positive Number of Outputs:1 Maximum Input Voltage:26V Output Voltage:5V~5V Output Voltage:5V~5V Dropout Voltage:1.5V@(500mA) Output Current:500mA Power Supply Rejection Ratio (PSRR):75dB@(120Hz); Manufacturer: onsemi(安森美); Add into BOM: yes; Number of Outputs: 1; Maximum Input Voltage: 26V; Output Voltage: 5V~5V; Name: NCV8141D2TR4G; Symbol: NCV8141D2TR4G; Device: NCV8141D2TR4G; LCSC Part Name: NCV8141D2TR4G; Supplier Part: C463170; Manufacturer Part: NCV8141D2TR4G; Supplier Footprint: D2PAK; JLCPCB Part Class: Extended Part; Datasheet: https://atta.szlcsc.com/upload/public/pdf/source/20191223/C463170_AF63051EB586C948EA9BB207BE7003FA.pdf; Supplier: LCSC; Convert to PCB: yes; Output Polarity: Positive; Dropout Voltage: 1.5V@(500mA); Output Current: 500mA; Power Supply Rejection Ratio (PSRR): 75dB@(120Hz)
footprint D2PAK-7_L11.5-W8.9-P1.27-LS14.2-BR
3D model D2PAK-7_L11.5-W8.9-P1.27-LS14.2-BR
pins: 1 VIN, 2 ENABLE, 3 RESET, 4 GND, 5 Delay, 6 WDI, 7 VOUT, 8 TAB

## RT9059GSP
designator U?
Manufacturer: RICHTEK(立锜); Add into BOM: yes; Name: RT9059GSP; Symbol: RT9059GSP; Device: RT9059GSP; LCSC Part Name: RT9059GSP; Supplier Part: C425783; Manufacturer Part: RT9059GSP; Supplier Footprint: SOP-8; JLCPCB Part Class: Extended Part; Datasheet: https://atta.szlcsc.com/upload/public/pdf/source/20220322/7BC383DB876EA90C9B5269D04B9E97C1.pdf; Supplier: LCSC; Convert to PCB: yes
footprint SOP-8_L4.9-W3.9-P1.27-LS6.0-BL-EP
3D model SOP-8_L4.9-W3.9-H1.7-LS6.0-P1.30
pins: 1 PGOOD, 2 EN, 3 VIN, 4 VDD, 5 NC, 6 VOUT, 7 ADJ/NC, 8 GND, 9 GND

## RT9166-33GVL(Z00)
designator U?
Output Type: Output Polarity:Positive Number of Outputs:1 Maximum Input Voltage:5.5V Output Voltage:3.3V~3.3V Output Voltage:3.3V~3.3V Dropout Voltage:230mV@(300mA) Output Current:300mA Power Supply Rejection Ratio (PSRR):55dB@(1kHz); Manufacturer: RICHTEK(立锜); Add into BOM: yes; Number of Outputs: 1; Maximum Input Voltage: 5.5V; Name: RT9166-33GVL(Z00); Symbol: RT9166-33GVL(Z00); Device: RT9166-33GVL(Z00); LCSC Part Name: RT9166-33GVL(Z00); Supplier Part: C130829; Manufacturer Part: RT9166-33GVL(Z00); Supplier Footprint: SOT-23; JLCPCB Part Class: Extended Part; Datasheet: https://atta.szlcsc.com/upload/public/pdf/source/20170918/C130829_1505703424314975354.pdf; Supplier: LCSC; Convert to PCB: yes; Output Polarity: Positive; Output Voltage: 3.3V~3.3V; Dropout Voltage: 230mV@(300mA); Output Current: 300mA; Power Supply Rejection Ratio (PSRR): 55dB@(1kHz)
footprint SOT-23-3_L2.9-W1.3-P1.90-LS2.4-BR
3D model SOT-23-3P_L2.9-W1.3-H1.0-LS2.4-P0.95
pins: 1 GND, 2 Vout, 3 Vin

## RT9166A-33GXL
designator U?
Output Type: Output Polarity:Positive Number of Outputs:1 Maximum Input Voltage:5.5V Output Voltage:3.3V~3.3V Output Voltage:3.3V~3.3V Dropout Voltage:580mV@(600mA) Quiescent Current (Ground Current):- Output Current:600mA Power Supply Rejection Ratio (PS; Manufacturer: RICHTEK(立锜); Add into BOM: yes; Number of Outputs: 1; Maximum Input Voltage: 5.5V; Power Supply Rejection Ratio (PSRR): 55dB@(1kHz); Name: RT9166A-33GXL; Symbol: RT9166A-33GXL; Device: RT9166A-33GXL; LCSC Part Name: 正 Vin=5.5V Vout=3.3V 600mA 55dB@(1kHz); Supplier Part: C425789; Manufacturer Part: RT9166A-33GXL; Supplier Footprint: SOT-89; JLCPCB Part Class: Extended Part; Datasheet: https://atta.szlcsc.com/upload/public/pdf/source/20190911/C425789_75C2AB90A45DAC62B44490DED98717BF.pdf; Supplier: LCSC; Convert to PCB: yes; Output Polarity: Positive; Output Voltage: 3.3V~3.3V; Dropout Voltage: 580mV@(600mA); Quiescent Current (Ground Current): -; Output Current: 600mA; Noise: -; Feature: -
footprint SOT-89-3_L4.5-W2.5-P1.50-LS4.2-BR
3D model SOT-89-3_L4.3-W2.5-H1.6-LS4.1-P1.50
pins: 1 GND, 2 VIN, 3 VOUT

## SPX3819M5-L-3-3/TR
designator U?
Output Type: Output Polarity:Positive Number of Outputs:1 Maximum Input Voltage:16V Output Voltage:3.3V Output Voltage:3.3V Dropout Voltage:700mV@(500mA) Quiescent Current (Ground Current):8uA Output Current:500mA Power Supply Rejection Ratio (PSRR):70dB; Manufacturer: MaxLinear; Add into BOM: yes; Number of Outputs: 1; Maximum Input Voltage: 16V; Output Voltage: 3.3V; Quiescent Current (Ground Current): 8uA; Power Supply Rejection Ratio (PSRR): 70dB; Name: SPX3819M5-L-3-3/TR; Symbol: SPX3819M5-L-3-3/TR; Device: SPX3819M5-L-3-3/TR; LCSC Part Name: 输入16V 输出3.3V 500mA; Supplier Part: C9055; Manufacturer Part: SPX3819M5-L-3-3/TR; Supplier Footprint: SOT-23-5; JLCPCB Part Class: Extended Part; Datasheet: https://atta.szlcsc.com/upload/public/pdf/source/20150720/1457707331934.pdf; Supplier: LCSC; Convert to PCB: yes; Output Polarity: Positive; Dropout Voltage: 700mV@(500mA); Output Current: 500mA; Operating Temperature: -40℃~+125℃
footprint SOT-23-5_L3.0-W1.7-P0.95-LS2.8-BL
3D model SOT-23-5_L2.9-W1.6-H1.1-LS2.8-P0.95
pins: 1 IN, 2 GND, 3 EN, 4 BYP, 5 OUT

## SPX5205M5-L-3-3/TR
designator U?
Output Type: Output Polarity:Positive Number of Outputs:1 Maximum Input Voltage:16V Output Voltage:3.3V~3.3V Output Voltage:3.3V~3.3V Dropout Voltage:350mV@(150mA) Output Current:150mA Power Supply Rejection Ratio (PSRR):70dB; Manufacturer: MaxLinear; Add into BOM: yes; Number of Outputs: 1; Maximum Input Voltage: 16V; Power Supply Rejection Ratio (PSRR): 70dB; Name: SPX5205M5-L-3-3/TR; Symbol: SPX5205M5-L-3-3/TR; Device: SPX5205M5-L-3-3/TR; LCSC Part Name: SPX5205M5-L-3-3/TR; Supplier Part: C6864; Manufacturer Part: SPX5205M5-L-3-3/TR; Supplier Footprint: SOT-23-5; JLCPCB Part Class: Extended Part; Datasheet: https://atta.szlcsc.com/upload/public/pdf/source/20170408/1491616589043.pdf; Supplier: LCSC; Convert to PCB: yes; Output Polarity: Positive; Output Voltage: 3.3V~3.3V; Dropout Voltage: 350mV@(150mA); Output Current: 150mA
footprint SOT-23-5_L3.0-W1.7-P0.95-LS2.8-TL
3D model SOT-23-5_L2.9-W1.6-H1.1-LS2.8-P0.95
pins: 1 IN, 2 GND, 3 EN, 4 BYP/ADJ, 5 OUT

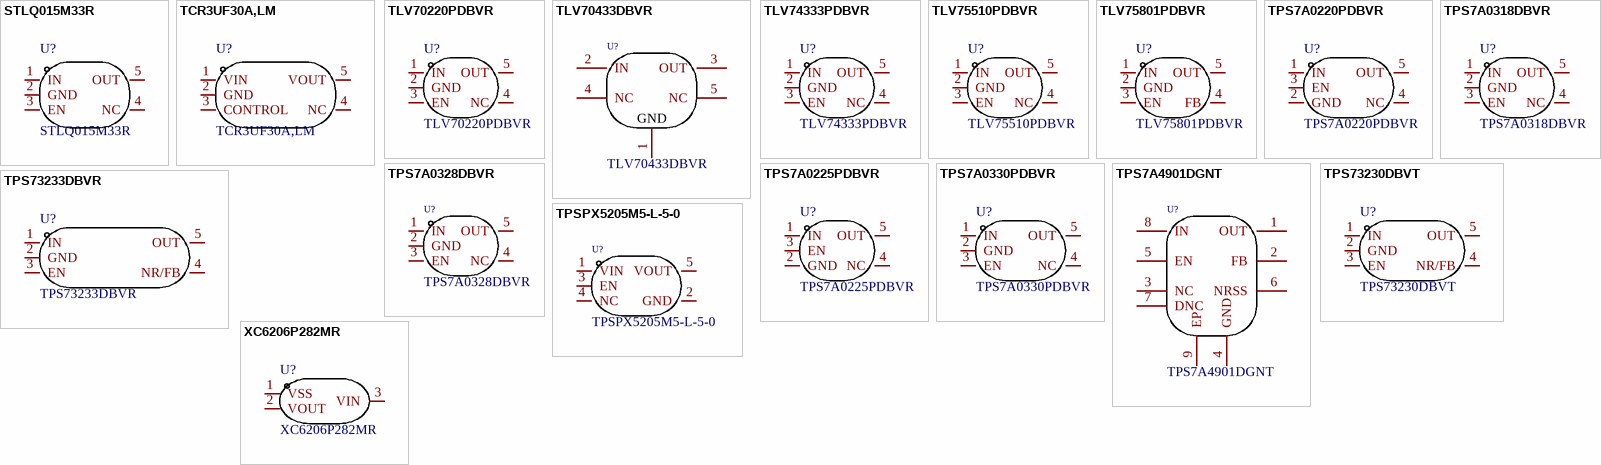
[diagram p1: symbols STLQ015M33R to XC6206P282MR]

## STLQ015M33R
designator U?
Output Type: Output Polarity:Positive Number of Outputs:1 Maximum Input Voltage:5.5V Output Voltage:3.3V~3.3V Output Voltage:3.3V~3.3V Dropout Voltage:300mV@(150mA) Output Current:150mA Power Supply Rejection Ratio (PSRR):40dB@(1kHz),15dB@(100kHz); Manufacturer: ST(意法半导体); Add into BOM: yes; Number of Outputs: 1; Maximum Input Voltage: 5.5V; Name: STLQ015M33R; Symbol: STLQ015M33R; Device: STLQ015M33R; LCSC Part Name: STLQ015M33R; Supplier Part: C136154; Manufacturer Part: STLQ015M33R; Supplier Footprint: SOT-23-5; JLCPCB Part Class: Extended Part; Datasheet: https://atta.szlcsc.com/upload/public/pdf/source/20171208/C136154_15127341228371171479.pdf; Supplier: LCSC; Convert to PCB: yes; Output Polarity: Positive; Output Voltage: 3.3V~3.3V; Dropout Voltage: 300mV@(150mA); Output Current: 150mA; Power Supply Rejection Ratio (PSRR): 40dB@(1kHz),15dB@(100kHz)
footprint SOT-23-5_L3.0-W1.7-P0.95-LS2.8-BR
3D model SOT-23-5_L2.9-W1.6-H1.1-LS2.8-P0.95
pins: 1 IN, 2 GND, 3 EN, 4 NC, 5 OUT

## TCR3UF30A,LM
designator U?
Manufacturer: TOSHIBA(东芝); Add into BOM: yes; Name: TCR3UF30A,LM; Symbol: TCR3UF30A,LM; Device: TCR3UF30A,LM; LCSC Part Name: TCR3UF30A,LM; Supplier Part: C5358561; Manufacturer Part: TCR3UF30A,LM; Supplier Footprint: SOT-23-5; JLCPCB Part Class: Extended Part; Datasheet: https://atta.szlcsc.com/upload/public/pdf/source/20230221/1A674594A8ECA2531E9A1F06031FAC3F.pdf; Supplier: LCSC; Convert to PCB: yes
footprint SOT-25-5_L2.9-W1.6-P0.95-LS2.8-BL
3D model SOT-25-5_L2.9-W1.6-P0.95-LS2.8-BL
pins: 1 VIN, 2 GND, 3 CONTROL, 4 NC, 5 VOUT

## TLV70220PDBVR
designator U?
Output Type:固定 Output Polarity:正 Number of Outputs:1 Maximum Input Voltage:5.5V Output Voltage:2V~2V Output Voltage:2V~2V Dropout Voltage:0.38V@(300mA) Quiescent Current (Ground Current):55uA Output Current:300mA Power Supply Rejection Ratio (PSRR):68dB@(; Manufacturer: TI(德州仪器); Add into BOM: yes; Output Type: 固定; Output Polarity: 正; Number of Outputs: 1; Maximum Input Voltage: 5.5V; Output Voltage: 2V~2V; Quiescent Current (Ground Current): 55uA; Power Supply Rejection Ratio (PSRR): 68dB@(1kHz); Name: TLV70220PDBVR; Symbol: TLV70220PDBVR; Device: TLV70220PDBVR; LCSC Part Name: TLV70220PDBVR; Supplier Part: C2877845; Manufacturer Part: TLV70220PDBVR; Supplier Footprint: SOT-23-5; JLCPCB Part Class: Extended Part; Datasheet: https://atta.szlcsc.com/upload/public/pdf/source/20230221/B6DC84B2F849CFA2DF907E6D4DCB45EE.pdf; Supplier: LCSC; Convert to PCB: yes; Dropout Voltage: 0.38V@(300mA); Output Current: 300mA; Operating Temperature: -40℃~+125℃@(Tj)
footprint SOT-23-5_L2.9-W1.6-P0.95-LS2.8-BR
3D model SOT-23-5_L2.9-W1.6-P0.95-LS2.8-BR
pins: 1 IN, 2 GND, 3 EN, 4 NC, 5 OUT

## TLV70433DBVR
designator U?
Output Type: Output Polarity:Positive Number of Outputs:1 Maximum Input Voltage:24V Output Voltage:3.3V Output Voltage:3.3V Dropout Voltage:1.1V@(100mA) Quiescent Current (Ground Current):4.5uA Output Current:150mA Power Supply Rejection Ratio (PSRR):60dB; Manufacturer: TI(德州仪器); Add into BOM: yes; Number of Outputs: 1; Maximum Input Voltage: 24V; Output Voltage: 3.3V; Quiescent Current (Ground Current): 4.5uA; Output Current: 150mA; Power Supply Rejection Ratio (PSRR): 60dB@(100kHz); Name: TLV70433DBVR; Symbol: TLV70433DBVR; Device: TLV70433DBVR; LCSC Part Name: 输入24V 输出3.3V 150mA; Supplier Part: C94917; Manufacturer Part: TLV70433DBVR; Supplier Footprint: SOT-23-5; JLCPCB Part Class: Extended Part; Datasheet: https://www.ti.com/cn/lit/gpn/tlv704; Supplier: LCSC; Convert to PCB: yes; Output Polarity: Positive; Dropout Voltage: 1.1V@(100mA); Operating Temperature: -40℃~+125℃@(Tj)
footprint SOT-23-5_L3.0-W1.7-P0.95-LS2.8-BR
3D model SOT-23-5_L2.9-W1.6-H1.1-LS2.8-P0.95
pins: 1 GND, 2 IN, 3 OUT, 4 NC, 5 NC

## TLV74333PDBVR
designator U?
Manufacturer: TI(德州仪器); Add into BOM: yes; Name: TLV74333PDBVR; Symbol: TLV74333PDBVR; Device: TLV74333PDBVR; LCSC Part Name: TLV74333PDBVR; Supplier Part: C408972; Manufacturer Part: TLV74333PDBVR; Supplier Footprint: SOT-23-5; JLCPCB Part Class: Extended Part; Datasheet: https://atta.szlcsc.com/upload/public/pdf/source/20190822/C408972_2AB6679E0F72B560377723817E08B5B6.pdf; Supplier: LCSC; Convert to PCB: yes
footprint SOT-23-5_L3.0-W1.7-P0.95-LS2.8-BR
3D model SOT-23-5_L2.9-W1.6-H1.1-LS2.8-P0.95
pins: 1 IN, 2 GND, 3 EN, 4 NC, 5 OUT

## TLV75510PDBVR
designator U?
Output Type:固定 Output Polarity:正 Number of Outputs:1 Maximum Input Voltage:5.5V Output Voltage:1V~1V Output Voltage:1V~1V Dropout Voltage:0.825V@(500mA) Quiescent Current (Ground Current):31uA Output Current:500mA Operating Temperature:-40℃~+125℃@(Tj) Ope; Manufacturer: TI(德州仪器); Add into BOM: yes; Output Type: 固定; Output Polarity: 正; Number of Outputs: 1; Maximum Input Voltage: 5.5V; Output Voltage: 1V~1V; Quiescent Current (Ground Current): 31uA; Name: TLV75510PDBVR; Symbol: TLV75510PDBVR; Device: TLV75510PDBVR; LCSC Part Name: TLV75510PDBVR; Supplier Part: C2870708; Manufacturer Part: TLV75510PDBVR; Supplier Footprint: SOT-23-5; JLCPCB Part Class: Extended Part; Datasheet: https://atta.szlcsc.com/upload/public/pdf/source/20230221/8E16F3B2F32D2FF7008DD79494891D4F.pdf; Supplier: LCSC; Convert to PCB: yes; Dropout Voltage: 0.825V@(500mA); Output Current: 500mA; Operating Temperature: -40℃~+125℃@(Tj)
footprint SOT-23-5_L2.9-W1.6-P0.95-LS2.8-BR
3D model SOT-23-5_L2.9-W1.6-P0.95-LS2.8-BR
pins: 1 IN, 2 GND, 3 EN, 4 NC, 5 OUT

## TLV75801PDBVR
designator U?
Manufacturer: TI(德州仪器); Add into BOM: yes; Name: TLV75801PDBVR; Symbol: TLV75801PDBVR; Device: TLV75801PDBVR; LCSC Part Name: TLV75801PDBVR; Supplier Part: C2877852; Manufacturer Part: TLV75801PDBVR; Supplier Footprint: SOT-23-5; JLCPCB Part Class: Extended Part; Supplier: LCSC; Convert to PCB: yes
footprint SOT-23-5_L3.0-W1.7-P0.95-LS2.8-BR
3D model SOT-23-5_L2.9-W1.6-H1.1-LS2.8-P0.95
pins: 1 IN, 2 GND, 3 EN, 4 FB, 5 OUT

## TPS7A0220PDBVR
designator U?
Output Type: Output Polarity:Positive Number of Outputs:1 Maximum Input Voltage:6V Output Voltage:2V~2V Output Voltage:2V~2V Dropout Voltage:0.45V@(200mA) Quiescent Current (Ground Current):60nA Output Current:200mA Power Supply Rejection Ratio (PSRR):55d; Manufacturer: TI(德州仪器); Add into BOM: yes; Number of Outputs: 1; Maximum Input Voltage: 6V; Output Voltage: 2V~2V; Quiescent Current (Ground Current): 60nA; Power Supply Rejection Ratio (PSRR): 55dB@(1kHz); Name: TPS7A0220PDBVR; Symbol: TPS7A0220PDBVR; Device: TPS7A0220PDBVR; LCSC Part Name: 输入6V 输出2V 200mA; Supplier Part: C3752360; Manufacturer Part: TPS7A0220PDBVR; Supplier Footprint: SOT-23-5; Datasheet: https://www.ti.com/cn/lit/gpn/tps7a02; Supplier: LCSC; Convert to PCB: yes; Output Polarity: Positive; Dropout Voltage: 0.45V@(200mA); Output Current: 200mA; Feature: Overcurrent Protection；过热保护; Operating Temperature: -40℃~+125℃@(Tj)
footprint SOT-23-5_L2.9-W1.6-P0.95-LS2.8-BR
3D model SOT-23-5_L2.9-W1.6-P0.95-LS2.8-BR
pins: 1 IN, 2 GND, 3 EN, 4 NC, 5 OUT

## TPS7A0225PDBVR
designator U?
Output Type:固定 Output Polarity:正 Number of Outputs:1 Maximum Input Voltage:6V Output Voltage:2.5V~2.5V Output Voltage:2.5V~2.5V Dropout Voltage:0.36V@(200mA) Quiescent Current (Ground Current):60nA Output Current:200mA Power Supply Rejection Ratio (PSRR):; Manufacturer: TI(德州仪器); Add into BOM: yes; Output Type: 固定; Output Polarity: 正; Number of Outputs: 1; Maximum Input Voltage: 6V; Quiescent Current (Ground Current): 60nA; Power Supply Rejection Ratio (PSRR): 55dB@(1kHz); Name: TPS7A0225PDBVR; Symbol: TPS7A0225PDBVR; Device: TPS7A0225PDBVR; LCSC Part Name: TPS7A0225PDBVR; Supplier Part: C1693617; Manufacturer Part: TPS7A0225PDBVR; Supplier Footprint: SOT-23-5L; JLCPCB Part Class: Extended Part; Datasheet: https://www.ti.com/cn/lit/gpn/tps7a02; Supplier: LCSC; Convert to PCB: yes; Output Voltage: 2.5V~2.5V; Dropout Voltage: 0.36V@(200mA); Output Current: 200mA; Operating Temperature: -40℃~+125℃@(Tj)
footprint SOT-23-5_L2.9-W1.6-P0.95-LS2.8-BR
3D model SOT-23-5_L2.9-W1.6-P0.95-LS2.8-BR
pins: 1 IN, 2 GND, 3 EN, 4 NC, 5 OUT

## TPS7A0318DBVR
designator U?
Manufacturer: TI(德州仪器); Add into BOM: yes; Name: TPS7A0318DBVR; Symbol: TPS7A0318DBVR; Device: TPS7A0318DBVR; LCSC Part Name: TPS7A0318DBVR; Supplier Part: C2862670; Manufacturer Part: TPS7A0318DBVR; Supplier Footprint: SOT-23-5; JLCPCB Part Class: Extended Part; Datasheet: 2022-10-07/5403139A/88632426f210467489a3d381db5fa913/tps7a03.pdf; Supplier: LCSC; Convert to PCB: yes
footprint SOT-23-5_L2.9-W1.6-P0.95-LS2.8-BR
3D model SOT-23-5_L2.9-W1.6-P0.95-LS2.8-BR
pins: 1 IN, 2 GND, 3 EN, 4 NC, 5 OUT

## TPS7A0328DBVR
designator U?
Output Type:固定 Output Polarity:正 Number of Outputs:1 Maximum Input Voltage:6V Output Voltage:2.8V~2.8V Output Voltage:2.8V~2.8V Dropout Voltage:0.36V@(200mA) Quiescent Current (Ground Current):300nA Output Current:200mA Power Supply Rejection Ratio (PSRR); Manufacturer: TI(德州仪器); Add into BOM: yes; Output Type: 固定; Output Polarity: 正; Number of Outputs: 1; Maximum Input Voltage: 6V; Quiescent Current (Ground Current): 300nA; Power Supply Rejection Ratio (PSRR): 55dB@(1kHz); Name: TPS7A0328DBVR; Symbol: TPS7A0328DBVR; Device: TPS7A0328DBVR; LCSC Part Name: TPS7A0328DBVR; Supplier Part: C2862669; Manufacturer Part: TPS7A0328DBVR; Supplier Footprint: SOT-23-5; JLCPCB Part Class: Extended Part; Datasheet: https://www.ti.com/cn/lit/gpn/tps7a03; Supplier: LCSC; Convert to PCB: yes; Output Voltage: 2.8V~2.8V; Dropout Voltage: 0.36V@(200mA); Output Current: 200mA; Operating Temperature: -40℃~+125℃@(Tj); link: https://atta.szlcsc.comnull
footprint SOT-23-5_L2.9-W1.6-P0.95-LS2.8-BR
3D model SOT-23-5_L2.9-W1.6-P0.95-LS2.8-BR
pins: 1 IN, 2 GND, 3 EN, 4 NC, 5 OUT

## TPS7A0330PDBVR
designator U?
Output Type: Output Polarity:Positive Number of Outputs:1 Maximum Input Voltage:6V Output Voltage:3V Output Voltage:3V Dropout Voltage:0.36V@(200mA) Quiescent Current (Ground Current):300nA Output Current:200mA Power Supply Rejection Ratio (PSRR):55dB@(1k; Manufacturer: TI(德州仪器); Add into BOM: yes; Number of Outputs: 1; Maximum Input Voltage: 6V; Output Voltage: 3V; Quiescent Current (Ground Current): 300nA; Power Supply Rejection Ratio (PSRR): 55dB@(1kHz); Name: TPS7A0330PDBVR; Symbol: TPS7A0330PDBVR; Device: TPS7A0330PDBVR; LCSC Part Name: 输入6V 输出3V 200mA; Supplier Part: C3752328; Manufacturer Part: TPS7A0330PDBVR; Supplier Footprint: SOT-23-5; JLCPCB Part Class: Extended Part; Datasheet: https://www.ti.com/cn/lit/gpn/tps7a03; Supplier: LCSC; Convert to PCB: yes; Output Polarity: Positive; Dropout Voltage: 0.36V@(200mA); Output Current: 200mA; Feature: Overcurrent Protection；过热保护; Operating Temperature: -40℃~+125℃@(Tj)
footprint SOT-23-5_L2.9-W1.6-P0.95-LS2.8-BR
3D model SOT-23-5_L2.9-W1.6-P0.95-LS2.8-BR
pins: 1 IN, 2 GND, 3 EN, 4 NC, 5 OUT

## TPS7A4901DGNT
designator U?
Output Type: Output Polarity:Positive Number of Outputs:1 Maximum Input Voltage:35V Output Voltage:1.194V~33V Output Voltage:1.194V~33V Dropout Voltage:450mV@(1A) Quiescent Current (Ground Current):100uA Output Current:150mA Power Supply Rejection Ratio (; Manufacturer: TI(德州仪器); Add into BOM: yes; Number of Outputs: 1; Maximum Input Voltage: 35V; Quiescent Current (Ground Current): 100uA; Output Current: 150mA; Power Supply Rejection Ratio (PSRR): 78dB@(1kHz); Name: TPS7A4901DGNT; Symbol: TPS7A4901DGNT; Device: TPS7A4901DGNT; LCSC Part Name: ADJ 输入35V 输出1.194V~33V 150mA; Supplier Part: C61422; Manufacturer Part: TPS7A4901DGNT; Supplier Footprint: MSOP-8-EP; JLCPCB Part Class: Extended Part; Datasheet: https://www.ti.com/cn/lit/gpn/tps7a49; Supplier: LCSC; Convert to PCB: yes; Output Polarity: Positive; Output Voltage: 1.194V~33V; Dropout Voltage: 450mV@(1A); Operating Temperature: -40℃~+125℃
footprint MSOP-8_L3.0-W3.0-P0.65-LS4.9-BL-EP1.8
3D model MSOP-8_L3.0-W3.0-P0.65-LS4.9-BL-EP1.8
pins: 1 OUT, 2 FB, 3 NC, 4 GND, 5 EN, 6 NRSS, 7 DNC, 8 IN, 9 EP